# Altium footprint library PROJE.PcbLib: 14 footprints
Each footprint in its own frame and in the unit in brackets; x right, y up, seen from the top. Pads: shape width x height; smd on the part's side, far side on the other; paste and mask are expansions set on the pad; w line width, h text height; cw(c..) or ccw(c..) is an arc to the next point about the centre after c.
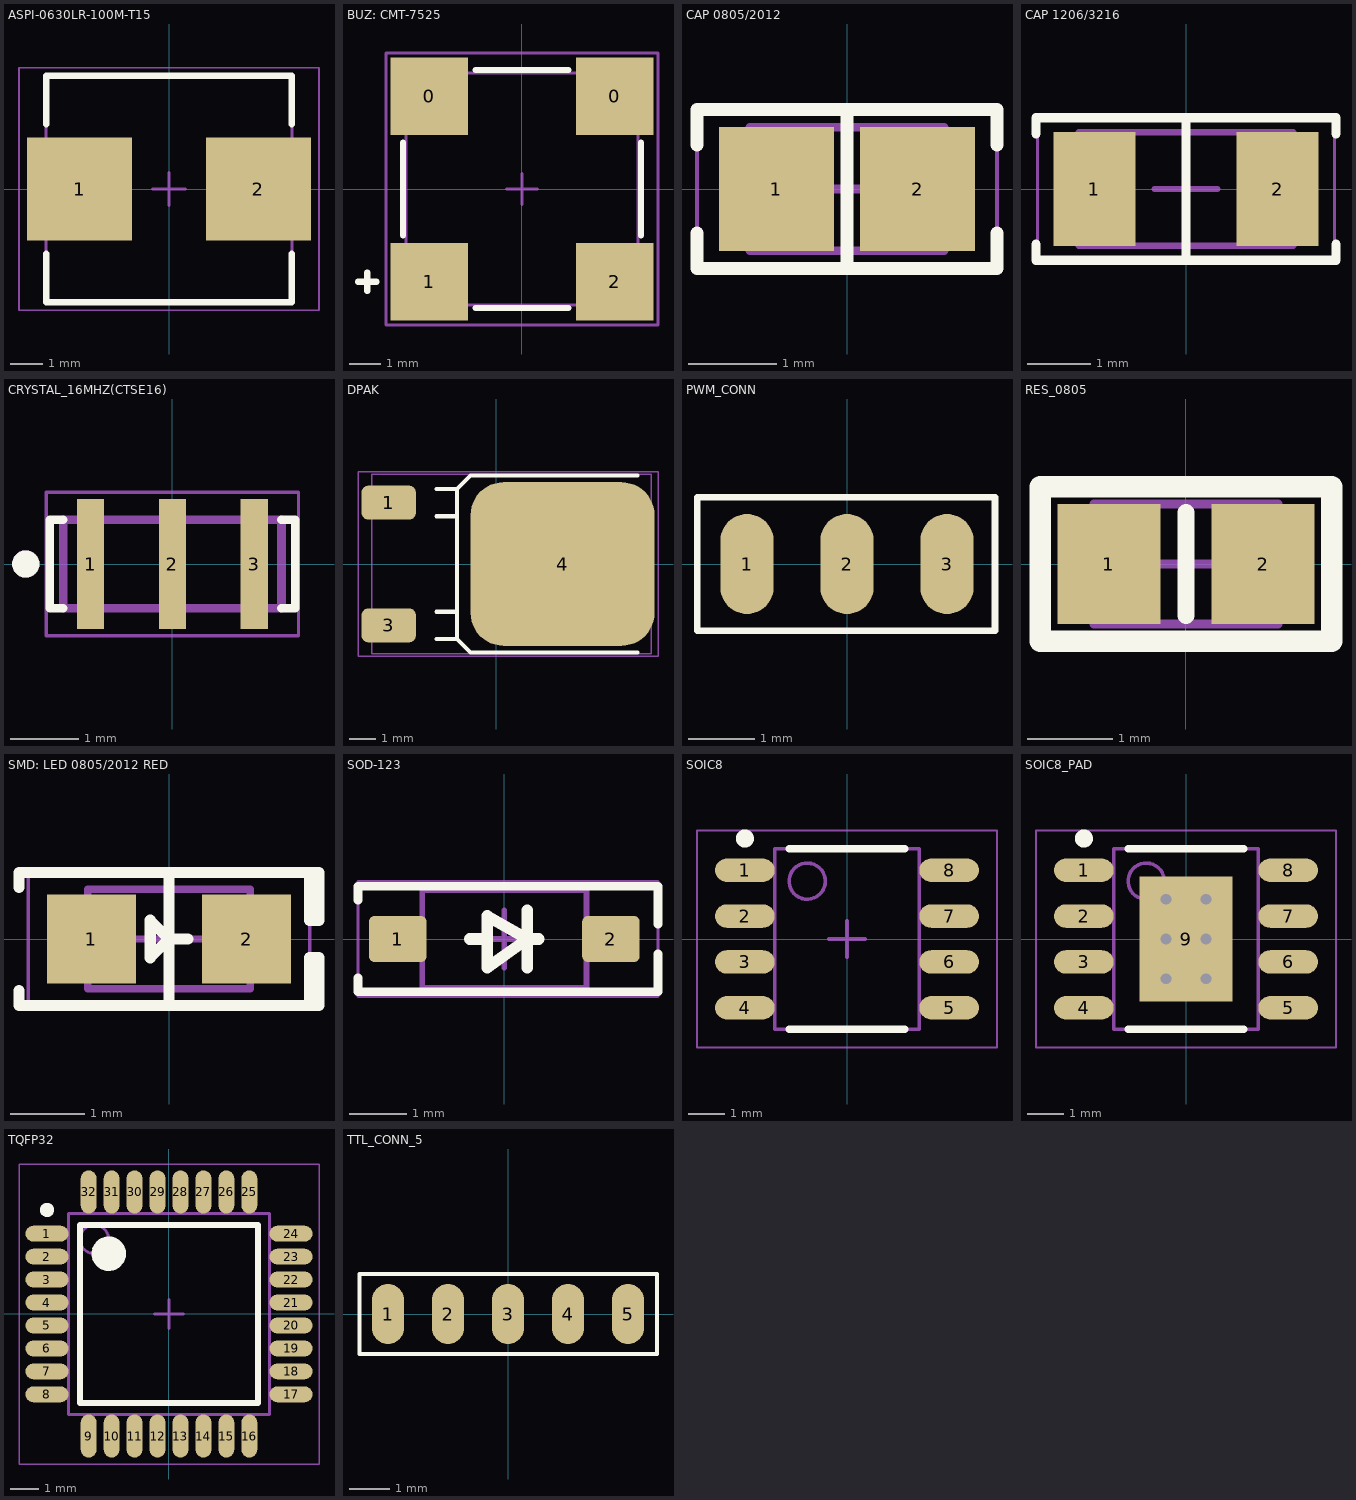
[diagram p0: the footprints below, top view; thin cyan lines are the x and y axes]

## ASPI-0630LR-100M-T15 [mm]
height 3.3
pads (2):
  rect 3.2x3.15 smd: 1(-2.725,0) 2(2.725,0)
Top Overlay:
  lines w0.2: -3.75,-1.975 -3.75,-3.45 3.75,-3.45 3.75,-1.975 ; -3.75,1.975 -3.75,3.45 3.75,3.45 3.75,1.975
Mechanical 13:
  lines w0.1: -3.75,-3.425 -3.75,3.425 3.75,3.425 3.75,-3.425 -3.75,-3.425
Mechanical 15:
  lines w0.05: -4.575,-3.7 -4.575,3.7 4.575,3.7 4.575,-3.7 -4.575,-3.7
  lines w0.1: -0.5,0 0.5,0 ; 0,-0.5 0,0.5
3D body "ASPI-0630LR.STEP": height 3, standoff 0, extent -3.6,-3.325 3.6,3.325

## BUZ: CMT-7525 [mm]
pads (4):
  rect 2.5x2.5 smd: 0(-3,3) 0(3,3) 1(-3,-3) 2(3,-3)
Top Overlay:
  lines w0.2: -5.3,-3 -4.7,-3 ; -5,-3.3 -5,-2.7 ; -3.85,-1.5 -3.85,1.5 ; -1.5,-3.85 1.5,-3.85 ; -1.5,3.85 1.5,3.85 ; 3.85,-1.5 3.85,1.5
Mechanical 1:
  lines w0.1: -3.5,-3 -2.5,-3 ; -3,-3.5 -3,-2.5 ; -3.75,-3.75 -3.75,3.75 3.75,3.75 3.75,-3.75 -3.75,-3.75
Mechanical 15:
  lines w0.1: -0.5,0 0.5,0 ; 0,-0.5 0,0.5 ; -4.4,-4.4 -4.4,4.4 4.4,4.4 4.4,-4.4 -4.4,-4.4
3D body "User Library-YX7525P.STEP": height 2.5, standoff -0.01, extent -3.75,-3.75 3.75,3.75

## CAP 0805/2012 [mm] "Chip Capacitor, 2-Leads, Body 2.00x1.20mm, IPC Medium Density"
height 1.15
pads (2):
  rect 1.3x1.4 smd: 1(-0.8,0) 2(0.8,0)
Top Overlay:
  lines w0.15: -1.7,-0.5 -1.7,-0.9 1.7,-0.9 1.7,-0.5 ; -1.7,0.5 -1.7,0.9 1.7,0.9 1.7,0.5 ; 0,-0.9 0,0.9
Mechanical 13:
  lines w0.1: -1.1,-0.7 1.1,-0.7 1.1,0.7 -1.1,0.7 -1.1,-0.7
Mechanical 15:
  lines w0.05: -1.7,-0.95 1.7,-0.95 1.7,0.95 -1.7,0.95 -1.7,-0.95
  lines w0.1: -0.5,0 0.5,0 ; 0,-0.5 0,0.5
3D body "0805 cap.STEP": height 1.26, standoff -0.02, extent -1,-0.637 1,0.637

## CAP 1206/3216 [mm] "Chip Capacitor, 2-Leads, Body 3.25x1.60mm, IPC Medium Density"
height 1.6
pads (2):
  rect 1.3x1.8 smd: 1(-1.45,0) 2(1.45,0)
Top Overlay:
  lines w0.15: -2.375,-0.875 -2.375,-1.125 2.375,-1.125 2.375,-0.875 ; -2.375,0.875 -2.375,1.125 2.375,1.125 2.375,0.875 ; 0,-1.125 0,1.125
Mechanical 13:
  lines w0.1: -1.7,-0.9 1.7,-0.9 1.7,0.9 -1.7,0.9 -1.7,-0.9
Mechanical 15:
  lines w0.05: -2.35,-1.15 2.35,-1.15 2.35,1.15 -2.35,1.15 -2.35,-1.15
  lines w0.1: -0.5,0 0.5,0 ; 0,-0.5 0,0.5
3D body "1206 cap.STEP": height 1.62, standoff 0, extent -1.6,-0.812 1.6,0.812

## CRYSTAL_16MHZ(CTSE16) [mm]
height 4
pads (3):
  rect 0.4x1.9 smd: 1(-1.2,0) 2(0,0) 3(1.2,0)
Top Overlay:
  circle w0.2: c-2.15,0 r0.1
  lines w0.127: -1.6,-0.65 -1.8,-0.65 -1.8,0.65 -1.6,0.65 ; 1.6,-0.65 1.8,-0.65 1.8,0.65 1.6,0.65
Mechanical 4:
  circle w0.2: c-2.15,0 r0.1
  circle w0.2: c-2.15,0 r0.1
  lines w0.127: -1.6,-0.65 -1.6,0.65 ; -1.6,-0.65 1.6,-0.65 ; -1.6,-0.65 -1.6,0.65 ; -1.6,-0.65 1.6,-0.65 ; -1.6,0.65 1.6,0.65 ; -1.6,0.65 1.6,0.65 ; 1.6,-0.65 1.6,0.65 ; 1.6,-0.65 1.6,0.65
Mechanical 16:
  lines w0.05: -1.85,-1.05 -1.85,1.05 1.85,1.05 1.85,-1.05 -1.85,-1.05
3D body "User Library-Resonators(CSTCE16M0V53-R0).step": height 0.9, standoff 0, extent -1.6,-0.65 1.6,0.65

## DPAK [mil] "D-PAK, 3-Pads, Body 6,47x6,54mm (max), IPC Medium Density"
height 85.83
pads (3):
  rrect40% 80x50 smd: 1(-157.48,90.55) 3(-157.48,-89.45)
  rrect40% 270x240 smd: 4(97.52,0.55)
Top Overlay:
  lines w6: -87.48,-109.45 -57.48,-109.45 ; -87.48,-69.45 -57.48,-69.45 ; -87.48,70.55 -57.48,70.55 ; -87.48,110.55 -57.48,110.55 ; 207.52,-129.45 -37.48,-129.45 -57.48,-109.45 ; 207.52,130.55 -37.48,130.55 -57.48,110.55 ; -57.48,-109.45 -57.48,110.55
Mechanical 13:
  lines w2: -182.48,-131.45 -182.48,132.55 227.52,132.55 227.52,-131.45 -182.48,-131.45
Mechanical 14:
  lines w2: -202.48,-134.45 237.52,-134.45 237.52,135.55 -202.48,135.55 -202.48,-134.45
3D body "TO-252.STEP": height 90.56, standoff -4.52, extent -174.25,-128.19 217.02,129.28

## PWM_CONN [mm]
pads (3):
  oval 0.8x1.5 smd: 1(-1.5,0) 2(0,0) 3(1.5,0)
Top Overlay:
  lines w0.1: -2.249,-1 -2.249,1 2.219,1 2.219,-1 -2.249,-1

## RES_0805 [mm]
pads (2):
  rect 1.2x1.4 smd: 1(-0.9,0) 2(0.9,0)
Top Overlay:
  lines w0.2: 0,-0.6 0,0.6
  lines w0.254: -1.7,-0.9 1.7,-0.9 1.7,0.9 -1.7,0.9 -1.7,-0.9
Mechanical 13:
  lines w0.1: -1.075,-0.7 -1.075,0.7 1.075,0.7 1.075,-0.7 -1.075,-0.7
Mechanical 15:
  lines w0.1: -0.5,0 0.5,0 ; 0,-0.5 0,0.5 ; -1.75,-0.95 -1.75,0.95 1.75,0.95 1.75,-0.95 -1.75,-0.95
3D body "RESC-0805.stp": height 0.6, standoff 0, extent -1.05,-0.675 1.05,0.675

## SMD: LED 0805/2012 RED [mm] "Chip Diode, 2-Leads, Body 2.00x1.25mm, IPC Medium Density"
height 0.7
pads (2):
  rect 1.2x1.2 smd: 1(-1.05,0) 2(1.05,0)
Top Overlay:
  lines w0.15: -2.032,-0.7 -2.032,-0.9 1.905,-0.9 ; -2.032,0.7 -2.032,0.9 1.905,0.9 ; 0,-0.9 0,0.9 ; 0.254,0 0,0 ; 0,0 -0.254,0.254 -0.254,-0.254 0,0 ; 1.905,-0.9 2.032,-0.9 2.032,-0.254 1.905,-0.254 1.905,-0.9 ; 1.905,0.9 2.032,0.9 2.032,0.254 1.905,0.254 1.905,0.9
Mechanical 13:
  lines w0.1: -1.1,-0.675 -1.1,0.675 1.1,0.675 1.1,-0.675 -1.1,-0.675
Mechanical 15:
  lines w0.05: -1.905,-0.95 -1.905,0.95 1.905,0.95 1.905,-0.95 -1.905,-0.95
  lines w0.1: -0.5,0 0.5,0 ; 0,-0.5 0,0.5
3D body "LED 0805 Lens RED.STEP": height 0.9, standoff 0.3, extent -0.65,-0.625 0.65,0.625
3D body "LED 0805 Base RED.STEP": height 0.4, standoff 0, extent -1,-0.625 1,0.625

## SOD-123 [mm] "SOD, 2-Leads, Body 1.55x3.70mm, IPC Medium Density"
height 1.35
pads (2):
  rrect25% 1x0.8 smd: 1(-1.85,0) 2(1.85,0)
Top Overlay:
  lines w0.15: -2.54,-0.675 -2.54,-0.916 2.286,-0.916 2.667,-0.916 2.667,-0.254 ; -2.54,0.675 -2.54,0.916 2.286,0.916 2.667,0.916 2.667,0.254
  lines w0.2: -0.6,0 -0.3,0 ; 0.4,-0.5 0.4,0.5 ; 0.6,0 0.4,0 ; 0.4,0 -0.3,-0.5 -0.3,0.4 0.4,0
Mechanical 13:
  lines w0.1: -1.425,-0.85 1.425,-0.85 1.425,0.85 -1.425,0.85 -1.425,-0.85
Mechanical 15:
  lines w0.05: -2.54,-1 2.667,-1 2.667,1 -2.54,1 -2.54,-1
  lines w0.1: -0.5,0 0.5,0 ; 0,-0.5 0,0.5
3D body "SOD123.STEP": height 1.18, standoff 0, extent -1.95,-0.9 1.95,0.9

## SOIC8 [mm] "SOIC, 8-Leads, Body 4,90x3,90mm, Pitch 1,27mm, Thermal Pad 3,45x2,56mm, IPC Low Density"
height 1.7
pads (8):
  oval 1.65x0.65 smd: 1(-2.825,1.905) 2(-2.825,0.635) 3(-2.825,-0.635) 4(-2.825,-1.905) 5(2.825,-1.905) 6(2.825,-0.635) 7(2.825,0.635) 8(2.825,1.905)
Top Overlay:
  circle w0.25: c-2.825,2.78 r0.125
  lines w0.2: -1.6,-2.5 1.6,-2.5 ; -1.6,2.5 1.6,2.5
Mechanical 13:
  circle w0.1: c-1.1,1.6 r0.5
  lines w0.1: -2,-2.5 2,-2.5 2,2.5 -2,2.5 -2,-2.5
Mechanical 15:
  lines w0.05: -4.15,-3 4.15,-3 4.15,3 -4.15,3 -4.15,-3
  lines w0.1: -0.5,0 0.5,0 ; 0,-0.5 0,0.5
3D body "SOIC8.step": height 1.7, standoff 0, extent -3,-2.5 3,2.5

## SOIC8_PAD [mm] "SOIC, 8-Leads, Body 4,90x3,90mm, Pitch 1,27mm, Thermal Pad 3,45x2,56mm, IPC Low Density"
height 1.7
pads (9):
  oval 1.65x0.65 smd: 1(-2.825,1.905) 2(-2.825,0.635) 3(-2.825,-0.635) 4(-2.825,-1.905) 5(2.825,-1.905) 6(2.825,-0.635) 7(2.825,0.635) 8(2.825,1.905)
  rect 2.56x3.45 smd: 9(0,0)
via 0.55,-1.1 diameter 0.6 hole 0.3
via -0.55,-1.1 diameter 0.6 hole 0.3
via -0.55,0 diameter 0.6 hole 0.3
via 0.55,0 diameter 0.6 hole 0.3
via 0.55,1.1 diameter 0.6 hole 0.3
via -0.55,1.1 diameter 0.6 hole 0.3
Top Overlay:
  circle w0.25: c-2.825,2.78 r0.125
  lines w0.2: -1.6,-2.5 1.6,-2.5 ; -1.6,2.5 1.6,2.5
Mechanical 13:
  circle w0.1: c-1.1,1.6 r0.5
  lines w0.1: -2,-2.5 2,-2.5 2,2.5 -2,2.5 -2,-2.5
Mechanical 15:
  lines w0.05: -4.15,-3 4.15,-3 4.15,3 -4.15,3 -4.15,-3
  lines w0.1: -0.5,0 0.5,0 ; 0,-0.5 0,0.5
3D body "SOIC8.step": height 1.7, standoff 0, extent -3,-2.5 3,2.5

## TQFP32 [mm] "TQFP, 32-Leads, Body 7,00x7,00mm, Pitch 0,80mm, IPC Medium Density"
height 1.2
pads (32):
  oval 1.5x0.55 smd: 1(-4.25,2.8) 2(-4.25,2) 3(-4.25,1.2) 4(-4.25,0.4) 5(-4.25,-0.4) 6(-4.25,-1.2) 7(-4.25,-2) 8(-4.25,-2.8) 17(4.25,-2.8) 18(4.25,-2) 19(4.25,-1.2) 20(4.25,-0.4) 21(4.25,0.4) 22(4.25,1.2) 23(4.25,2) 24(4.25,2.8)
  oval 0.55x1.5 smd: 9(-2.8,-4.25) 10(-2,-4.25) 11(-1.2,-4.25) 12(-0.4,-4.25) 13(0.4,-4.25) 14(1.2,-4.25) 15(2,-4.25) 16(2.8,-4.25) 25(2.8,4.25) 26(2,4.25) 27(1.2,4.25) 28(0.4,4.25) 29(-0.4,4.25) 30(-1.2,4.25) 31(-2,4.25) 32(-2.8,4.25)
Top Overlay:
  circle w0.6: c-2.1,2.1 r0.3
  circle w0.25: c-4.25,3.625 r0.125
  lines w0.2: -3.1,-3.1 3.1,-3.1 3.1,3.1 -3.1,3.1 -3.1,-3.1
Mechanical 13:
  circle w0.1: c-2.6,2.6 r0.5
  lines w0.1: -3.5,-3.5 3.5,-3.5 3.5,3.5 -3.5,3.5 -3.5,-3.5
Mechanical 15:
  lines w0.05: -5.225,-5.225 5.225,-5.225 5.225,5.225 -5.225,5.225 -5.225,-5.225
  lines w0.1: -0.5,0 0.5,0 ; 0,-0.5 0,0.5
3D body "User Library-TQFP32-4.step": height 1, standoff -0.15, extent -4.512,-4.512 4.512,4.512

## TTL_CONN_5 [mm]
pads (5):
  oval 0.8x1.5 smd: 1(-3,0) 2(-1.5,0) 3(0,0) 4(1.5,0) 5(3,0)
Top Overlay:
  lines w0.1: -3.713,-1 -3.713,1 3.723,1 3.723,-1 -3.713,-1